# Altium footprint library 8x12_radial_angular.PcbLib: 1 footprints
Each footprint in its own frame and in the unit in brackets; x right, y up, seen from the top. Pads: shape width x height; smd on the part's side, far side on the other; paste and mask are expansions set on the pad; w line width, h text height; cw(c..) or ccw(c..) is an arc to the next point about the centre after c.
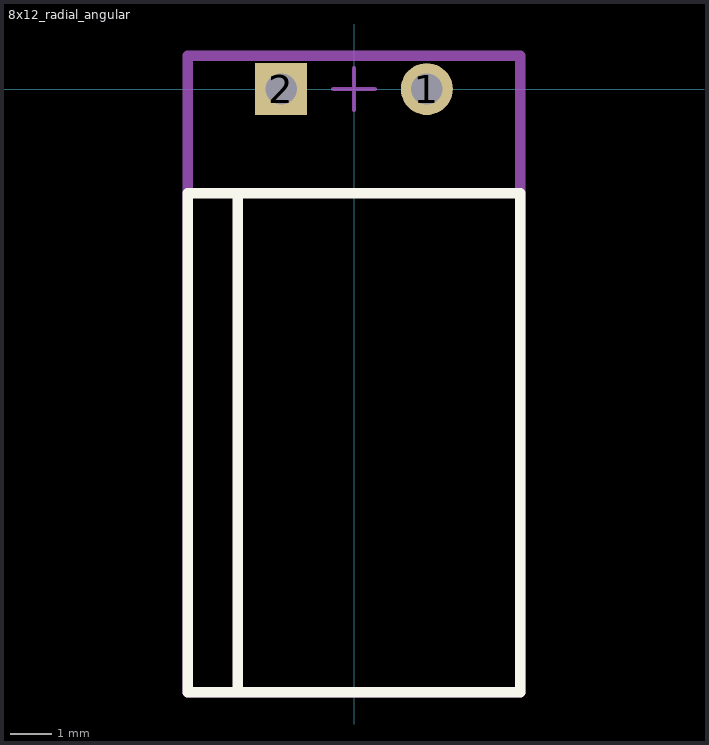
[diagram p0: the footprint, top view; thin cyan lines are the x and y axes]

## 8x12_radial_angular [mm]
pads (2):
  round 1.25 hole 0.75 paste-2539.97 mask+0: 1(1.75,0)
  rect 1.25x1.25 hole 0.75 paste-2539.97 mask+0: 2(-1.75,0)
Top Overlay:
  lines w0.254: -2.8,-14.5 -2.8,-2.5 ; -4,-14.5 4,-14.5 4,-2.5 -4,-2.5 -4,-14.5
Top Assembly:
  text ".Designator" at -0.1,-1.812 h1
Top Courtyard:
  lines w0.254: -4,-14.5 4,-14.5 4,0.8 -4,0.8 -4,-14.5
Top Component Center:
  lines w0.1: -0.5,0 0.5,0 ; 0,-0.5 0,0.5
3D body "user library-cap_pol8x12_ra.STEP": height 7.99, standoff -4, extent -3.99,-14.525 3.985,0.264